# Altium integrated library TSW-105-XX-XXX-S--Symbol-Altium-44987.IntLib: 1 symbol
Pins are listed as number, name and electrical type; pins without a type are passive.

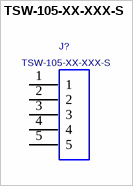
[diagram p0: symbol TSW-105-XX-XXX-S]

## TSW-105-XX-XXX-S
designator J?
SINGLE ROW .025[0.64] SQ. POST TERMINAL STRIP ASSEMBLY,; MANUFACTURER: SAMTEC; CREATED BY: July 28, 2014 - Wendy Xin; PCB DECAL: TSW-105-XX-XXX-S
footprint TSW-105-XX-XXX-S
pins: 1, 2, 3, 4, 5